# EAGLE library part 87758-4816 (library con-molex)
48 Pin - 2mm Dual Row Single Wafer, Vertical T/H HDR Source: http://www.molex.com/pdm_docs/sd/877580616_sd.pdf
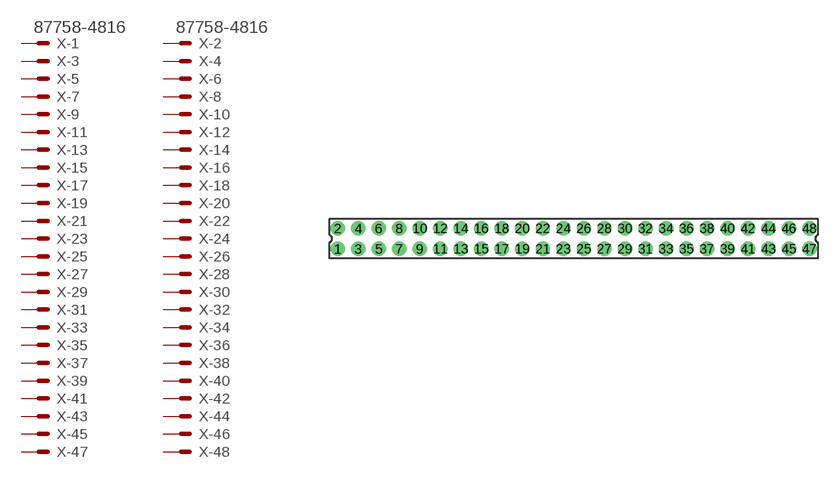
[diagram p188: symbol with the pads of 87758-4816; footprint 87758-4816]

Designator prefix X; gates -1=MV -2=MV -3=M -4=M -5=M -6=M -7=M -8=M -9=M -10=M -11=M -12=M -13=M -14=M -15=M -16=M -17=M -18=M -19=M -20=M -21=M -22=M -23=M -24=M -25=M -26=M -27=M -28=M -29=M -30=M -31=M -32=M -33=M -34=M -35=M -36=M -37=M -38=M -39=M -40=M -41=M -42=M -43=M -44=M -45=M -46=M -47=M -48=M

## 87758-4816 (MPN: 87758-4816; OC_FARNELL: unknown; OC_NEWARK: 25M5696)  [87758-4816]
1  -1:S  pas
2  -2:S  pas
3  -3:S  pas
4  -4:S  pas
5  -5:S  pas
6  -6:S  pas
7  -7:S  pas
8  -8:S  pas
9  -9:S  pas
10  -10:S  pas
11  -11:S  pas
12  -12:S  pas
13  -13:S  pas
14  -14:S  pas
15  -15:S  pas
16  -16:S  pas
17  -17:S  pas
18  -18:S  pas
19  -19:S  pas
20  -20:S  pas
21  -21:S  pas
22  -22:S  pas
23  -23:S  pas
24  -24:S  pas
25  -25:S  pas
26  -26:S  pas
27  -27:S  pas
28  -28:S  pas
29  -29:S  pas
30  -30:S  pas
31  -31:S  pas
32  -32:S  pas
33  -33:S  pas
34  -34:S  pas
35  -35:S  pas
36  -36:S  pas
37  -37:S  pas
38  -38:S  pas
39  -39:S  pas
40  -40:S  pas
41  -41:S  pas
42  -42:S  pas
43  -43:S  pas
44  -44:S  pas
45  -45:S  pas
46  -46:S  pas
47  -47:S  pas
48  -48:S  pas

## Footprint 87758-4816 (pad centres in mm)
48 Pin - 2mm Dual Row Single Wafer, Vertical T/H HDR Source: http://www.molex.com/pdm_docs/sd/877580616_sd.pdf
drill 0.9 pad 1.27: 1 -23,-1; 2 -23,1; 3 -21,-1; 4 -21,1; 5 -19,-1; 6 -19,1; 7 -17,-1; 8 -17,1; 9 -15,-1; 10 -15,1; 11 -13,-1; 12 -13,1; 13 -11,-1; 14 -11,1; 15 -9,-1; 16 -9,1; 17 -7,-1; 18 -7,1; 19 -5,-1; 20 -5,1; 21 -3,-1; 22 -3,1; 23 -1,-1; 24 -1,1; 25 1,-1; 26 1,1; 27 3,-1; 28 3,1; 29 5,-1; 30 5,1; 31 7,-1; 32 7,1; 33 9,-1; 34 9,1; 35 11,-1; 36 11,1; 37 13,-1; 38 13,1; 39 15,-1; 40 15,1; 41 17,-1; 42 17,1; 43 19,-1; 44 19,1; 45 21,-1; 46 21,1; 47 23,-1; 48 23,1